# Altium schematic symbol library ERJ-2RKF1000X.SchLib: 1 symbol
Pins are listed as number, name and electrical type; pins without a type are passive.

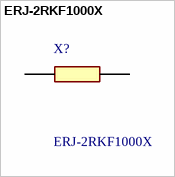
[diagram p0: symbol ERJ-2RKF1000X]

## ERJ-2RKF1000X
designator X?
Precision Thick Film Chip Resistor, 0402, 0.063W; Manufacturer_Name: Panasonic; Geometry.Height: 0.4mm; Mouser Part Number: 667-ERJ-2RKF1000X; Mouser Price/Stock: https://www.mouser.co.uk/ProductDetail/Panasonic/ERJ-2RKF1000X?qs=1iN9QGIZ5R%2Fx4uM9UolshQ%3D%3D; Manufacturer_Part_Number: ERJ-2RKF1000X; Datasheet Link: https://industrial.panasonic.com/cdbs/www-data/pdf/RDA0000/AOA0000C86.pdf
footprint ERJ2RKD1004X
pins: 1, 2